# Altium schematic symbol library Sensor_breakout.SchLib: 5 symbols
Pins are listed as number, name and electrical type; pins without a type are passive.

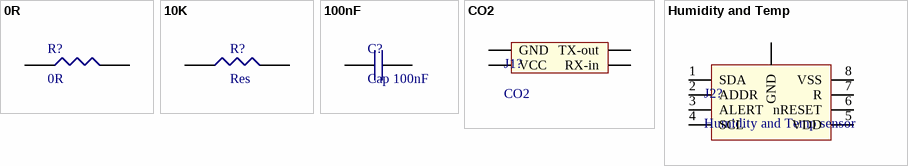
[diagram p0: symbols 0R to Humidity and Temp]

## 0R
designator R?
Thick Film Resistors - SMD 0.0ohm 1%; Manufacturer: Yageo; Manufacturer Part Number: RC0603FR-070RL; Product Training Modules: Chip Resistor; Catalog Drawings: Thick Film Resistor Side; PCN Other: RC/AC 0603/0805/1206 22/Jan/2013; HTML Datasheet: RC Series, L Suffix Datasheet.html; EDA / CAD Models: Download from Accelerated Designs; Resistance (Ohms): 0.0; Tolerance: Jumper; Power (Watts): 0.1W, 1/10W; Online Catalog: RC0603 Series; Other Names: 311-0.0HRTR  Q3106287A  RC0603FR-070RL-ND; Supplier 1: Farnell; Stock 1: 12704; Pricing 1: 10=0.021, 100=0.018, 500=0.0126, 1000=0.0105, 2500=0.0079 (GBP); Standard Package: 5,000; Category: Resistors; Family: Chip Resistor - Surface Mount; Series: RC; Packaging: Tape & Reel (TR); Composition: Thick Film; Features: Moisture Resistant; Temperature Coefficient: -; Operating Temperature: -55°C ~ 155°C; Package / Case: 0603 (1608 Metric); Supplier Device Package: 0603; Size / Dimension: 0.063" L x 0.031" W (1.60mm x 0.80mm); Height: 0.022" (0.55mm); Number of Terminations: 2; Supplier Part Number 1: 2309106
footprint RES0603
pins: 1, 2

## 10K
designator R?, comment Res
footprint RES0603
pins: 1, 2

## 100nF
designator C?, comment Cap 100nF
footprint CAP0603
pins: 1, 2

## CO2
designator J1?
footprint CO2
pins: 1 GND, 2 VCC, 3 TX-out, 4 RX-in

## Humidity and Temp
designator J2?, comment Humidity and Temp sensor
footprint SHT3x-DIS
pins: 1 SDA, 2 ADDR, 3 ALERT, 4 SCL, 5 VDD, 6 nRESET, 7 R, 8 VSS, 9 GND